# EAGLE library part PCF85263ATT/AJ (library bucket)
IC RTC CLK/CALENDAR I2C 8TSSOP Manufacturer's datasheet <https://www.nxp.com/docs/en/data-sheet/PCF85263A.pdf>
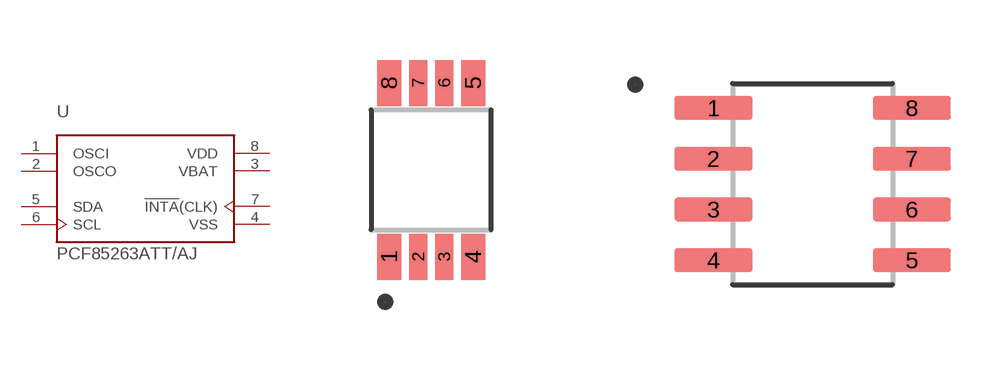
[diagram p2: symbol with the pads of PCF85263ATT/AJ; footprints PCF85263ATT/AJ, SOIC127P600X175-8N]

Designator prefix U

## PCF85263ATT/AJ  [PCF85263ATT/AJ]
1  OSCI  in
2  OSCO  out
3  VBAT  pwr
4  VSS  pwr
5  SDA
6  SCL  in
7  !INTA!(CLK)  out
8  VDD  pwr

## PCF85263ATT/AJ-SO8  [SOIC127P600X175-8N]
Pads as for PCF85263ATT/AJ

## Footprint PCF85263ATT/AJ (pad centres in mm)
smd 0.6 x 1.15: 1 -1.05,-2.175; 4 1.05,-2.175; 5 1.05,2.175; 8 -1.05,2.175
smd 0.45 x 1.15: 2 -0.325,-2.175; 3 0.325,-2.175; 6 0.325,2.175; 7 -0.325,2.175

## Footprint SOIC127P600X175-8N (pad centres in mm)
smd 1.95 x 0.59: 1 -2.48,1.905; 2 -2.48,0.635; 3 -2.48,-0.635; 4 -2.48,-1.905; 5 2.48,-1.905; 6 2.48,-0.635; 7 2.48,0.635; 8 2.48,1.905